# EAGLE library part HUZZAH32-ARTLIGHT.CORNHOLE (library artlight)
Adafruit Huzzah32 as used by artlight.cornhole
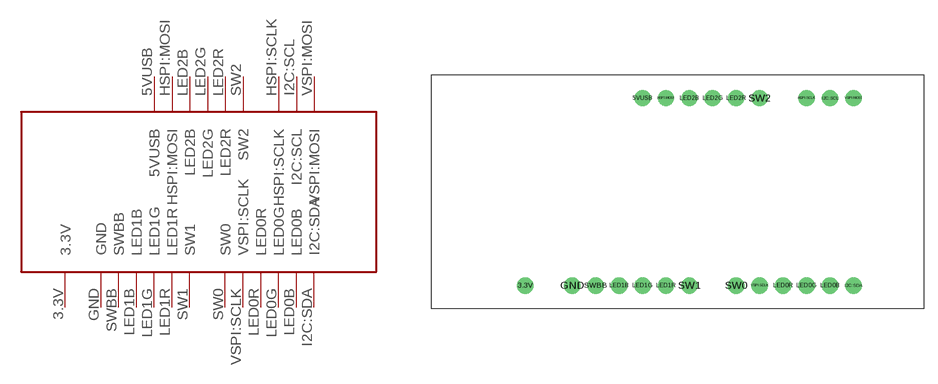
[diagram p1: symbol with the pads of FEATHERWING-ARTLIGHT.CORNHOLE; footprint FEATHERWING-ARTLIGHT.CORNHOLE]

Designator prefix -

## HUZZAH32-ARTLIGHT.CORNHOLE  [FEATHERWING-ARTLIGHT.CORNHOLE]
3.3V  3.3V
5VUSB  5VUSB
GND  GND
HSPI:MOSI  HSPI:MOSI
HSPI:SCLK  HSPI:SCLK
I2C:SCL  I2C:SCL
I2C:SDA  I2C:SDA
LED0B  LED0B
LED0G  LED0G
LED0R  LED0R
LED1B  LED1B
LED1G  LED1G
LED1R  LED1R
LED2B  LED2B
LED2G  LED2G
LED2R  LED2R
SW0  SW0
SW1  SW1
SW2  SW2
SWBB  SWBB
VSPI:MOSI  VSPI:MOSI
VSPI:SCLK  VSPI:SCLK

## Footprint FEATHERWING-ARTLIGHT.CORNHOLE (pad centres in mm)
Adafruit Featherwing for Huzzah32 as used by artlight.cornhole
drill 1 pad 1.778: 3.3V -17.78,-10.16; 5VUSB -5.08,10.16; GND -12.7,-10.16; HSPI:MOSI -2.54,10.16; HSPI:SCLK 12.7,10.16; I2C:SCL 15.24,10.16; I2C:SDA 17.78,-10.16; LED0B 15.24,-10.16; LED0G 12.7,-10.16; LED0R 10.16,-10.16; LED1B -7.62,-10.16; LED1G -5.08,-10.16; LED1R -2.54,-10.16; LED2B 0,10.16; LED2G 2.54,10.16; LED2R 5.08,10.16; SW0 5.08,-10.16; SW1 0,-10.16; SW2 7.62,10.16; SWBB -10.16,-10.16; VSPI:MOSI 17.78,10.16; VSPI:SCLK 7.62,-10.16